# Altium footprint library MEGA.PcbLib: 237 footprints (part 10 of 15)
Each footprint in its own frame and in the unit in brackets; x right, y up, seen from the top. Pads: shape width x height; smd on the part's side, far side on the other; paste and mask are expansions set on the pad; w line width, h text height; cw(c..) or ccw(c..) is an arc to the next point about the centre after c.
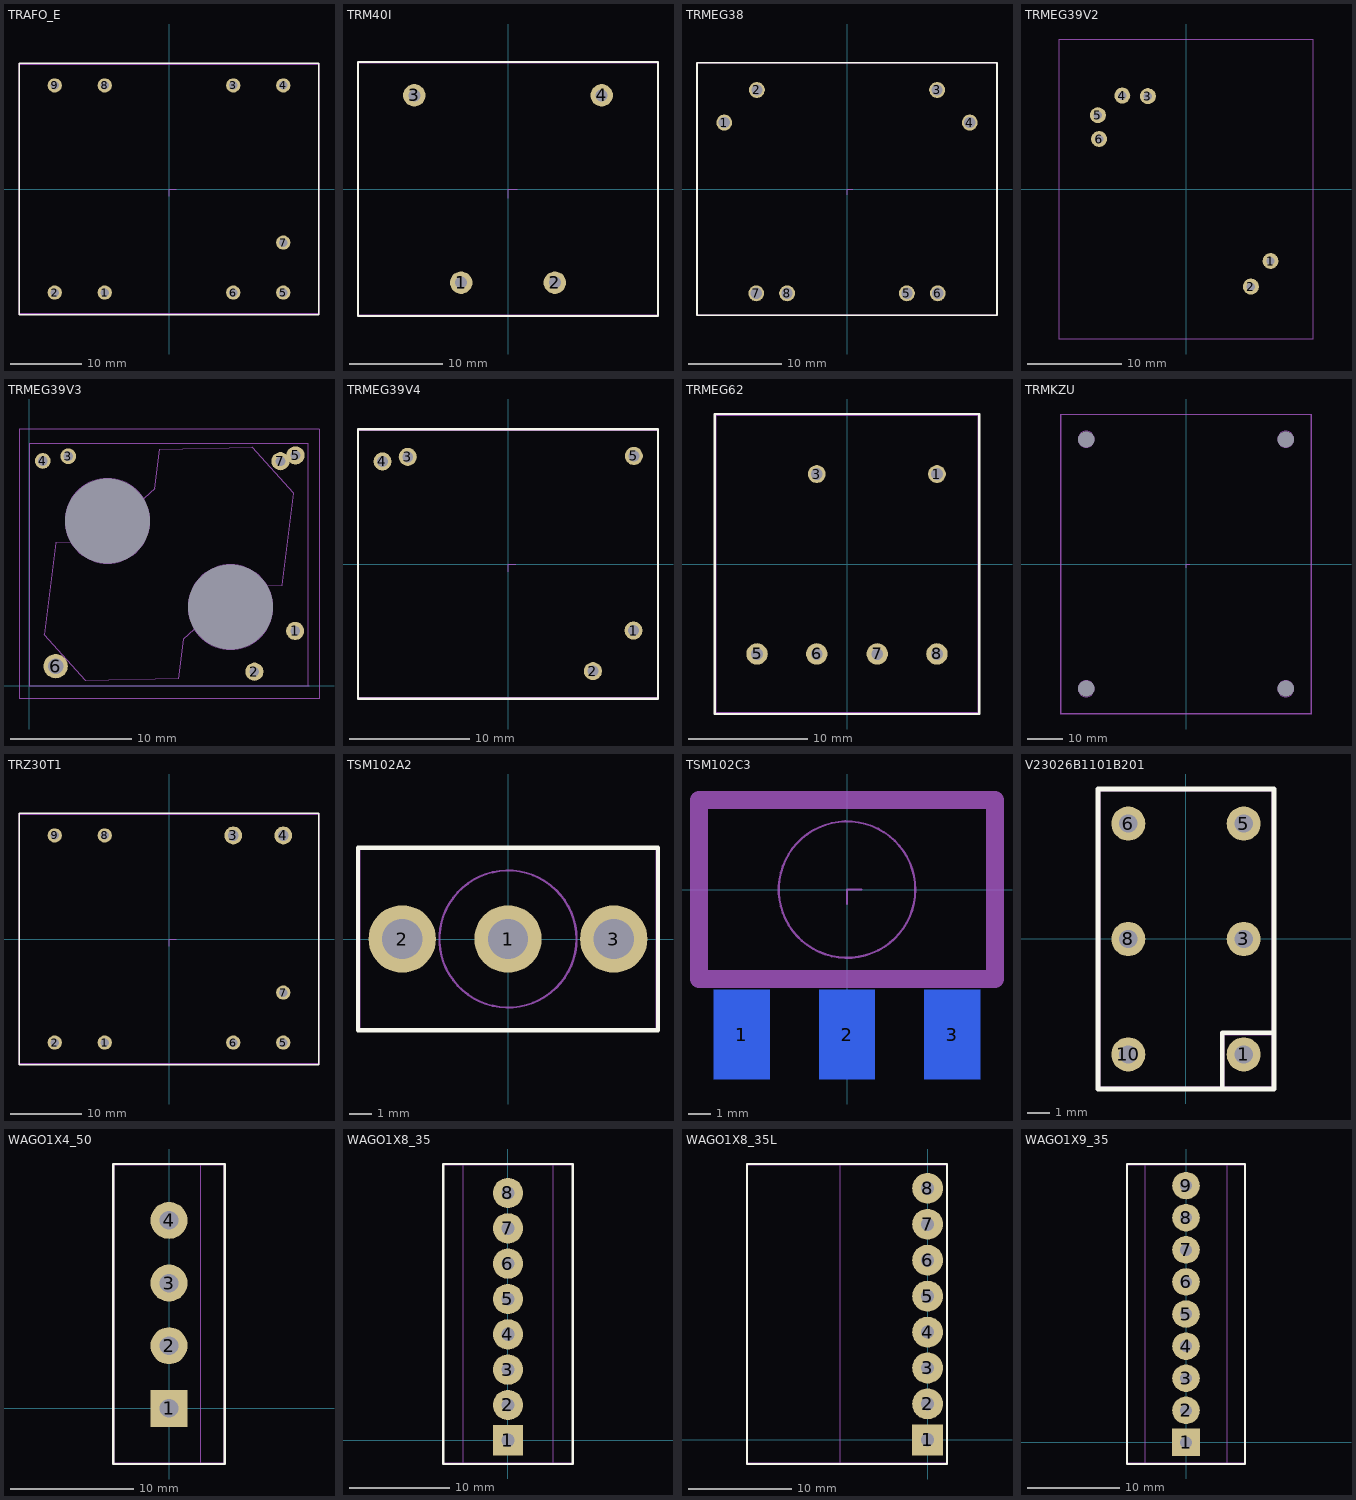
[diagram p9: the footprints below, top view; thin cyan lines are the x and y axes]

## TRAFO_E [mm]
pads (9):
  round 2 hole 1.2 mask+0.05: 1(-9,-14.5) 2(-16,-14.5) 3(9,14.5) 4(16,14.5) 5(16,-14.5) 6(9,-14.5) 7(16,-7.5) 8(-9,14.5) 9(-16,14.5)
Top Overlay:
  lines w0.2: -21,-17.6 21,-17.6 21,17.6 -21,17.6 -21,-17.6
Mechanical 15:
  circle w0.1: c-16,14.5 r0.5
  circle w0.1: c-16,-14.5 r0.5
  circle w0.1: c16,14.5 r0.5
  circle w0.1: c16,-7.5 r0.5
  circle w0.1: c16,-14.5 r0.5
  circle w0.1: c9,-14.5 r0.5
  circle w0.1: c-9,-14.5 r0.5
  circle w0.1: c-9,14.5 r0.5
  circle w0.1: c9,14.5 r0.5
  lines w0.1: -20.9,-17.5 20.9,-17.5 20.9,17.5 -20.9,17.5 -20.9,-17.5
Mechanical 16:
  circle w0.1: c-16,14.5 r0.5
  circle w0.1: c16,14.5 r0.5
  circle w0.1: c-16,-14.5 r0.5
  circle w0.1: c16,-7.5 r0.5
  circle w0.1: c-9,-14.5 r0.5
  circle w0.1: c9,-14.5 r0.5
  circle w0.1: c16,-14.5 r0.5
  circle w0.1: c-9,14.5 r0.5
  circle w0.1: c9,14.5 r0.5
Multi-Layer:
  text "Value" at -1.235,-0.869 h0.75
Mechanical 19:
  lines w0.1: 0,-1 0,0 1,0
Mechanical 20:
  lines w0.1: -21,-17.6 21,-17.6 21,17.6 -21,17.6 -21,-17.6

## TRM40I [mm]
pads (4):
  round 2.4 hole 1.3 mask+0.1: 1(-5.016,-10.033) 2(5.016,-10.033) 3(-10.033,10.033) 4(10.033,10.033)
Top Overlay:
  lines w0.2: -16.066,-13.589 16.066,-13.589 16.066,13.589 -16.066,13.589 -16.066,-13.589
Mechanical 15:
  lines w0.1: -16.002,-13.525 16.002,-13.525 16.002,13.525 -16.002,13.525 -16.002,-13.525
Multi-Layer:
  text "Value" at -1.235,-0.869 h0.75
Mechanical 19:
  lines w0.1: 0,-1 0,0 1,0
Mechanical 20:
  lines w0.1: -16.066,-13.589 16.066,-13.589 16.066,13.589 -16.066,13.589 -16.066,-13.589

## TRMEG38 [mm]
pads (8):
  round 1.7 hole 1.2 mask+0.05: 1(-13.144,7.112) 2(-9.652,10.604) 3(9.652,10.604) 4(13.144,7.112) 5(6.413,-11.176) 6(9.716,-11.176) 7(-9.716,-11.176) 8(-6.413,-11.176)
Top Overlay:
  lines w0.2: -16.066,-13.525 16.066,-13.525 16.066,13.525 -16.066,13.525 -16.066,-13.525
Mechanical 15:
  lines w0.1: -16,-13.5 16,-13.5 16,13.5 -16,13.5 -16,-13.5
Multi-Layer:
  text "Value" at -1.235,-0.869 h0.75
Mechanical 19:
  lines w0.1: 0,-0.635 0,0 0.635,0
Mechanical 20:
  lines w0.1: -16.066,-13.525 16.066,-13.525 16.066,13.525 -16.066,13.525 -16.066,-13.525

## TRMEG39V2 [mm]
pads (6):
  round 1.7 hole 0.9 mask+0.1: 1(9.017,-7.683) 2(6.921,-10.414) 3(-4.064,9.906) 4(-6.794,9.97) 5(-9.398,7.874) 6(-9.271,5.334)
Mechanical 15:
  lines w0.1: -13.525,-16.002 13.525,-16.002 13.525,16.002 -13.525,16.002 -13.525,-16.002

## TRMEG39V3 [mm]
pads (9):
  round 1.5 hole 0.8 mask+0.1: 1(21.971,4.508) 2(18.605,1.143) 5(22,19) 7(20.76,18.52)
  round 1.3 hole 0.8 mask+0.1: 3(3.238,18.923) 4(1.143,18.542)
  round 2 hole 1.3 mask+0.1: 6(2.2,1.6)
  round 0 hole 7 unplated: HL1(6.477,13.589) HL2(16.637,6.477)
Mechanical 15:
  circle w0.1: c6.477,13.589 r3.5
  circle w0.1: c16.637,6.477 r3.5
  circle w0.1: c1.143,18.542 r0.4
  circle w0.1: c3.238,18.923 r0.4
  circle w0.1: c20.76,18.52 r0.4
  circle w0.1: c22,19 r0.4
  circle w0.1: c21.971,4.508 r0.4
  circle w0.1: c18.605,1.143 r0.4
  circle w0.1: c2.2,1.6 r0.65
  lines w0.1: -0.826,-1.079 -0.826,21.145 23.939,21.145 23.939,-1.079 -0.826,-1.079 ; 1.27,4.188 4.669,0.411 12.319,0.551 12.715,3.813 17.623,8.232 20.907,8.283 21.844,15.878 18.445,19.655 10.795,19.515 10.399,16.253 5.491,11.834 2.207,11.783 1.27,4.188
  text "5" at 21.9,17.525 h0.75
  text "6" at 0.818,1.175 h0.75
  text "4" at 0.882,17.025 h0.75
  text "3" at 3.95,18.525 h0.75
  text "2" at 19.3,0.825 h0.75
  text "1" at 21.861,3.025 h0.75
  text "7" at 19.95,18.875 h0.75
Mechanical 19:
  lines w0.1: 23,0 23,20 0,20 0,0 23.114,0

## TRMEG39V4 [mm]
pads (5):
  round 1.5 hole 0.9 mask+0.05: 1(10.414,-5.524) 2(7.048,-8.89) 3(-8.319,8.89) 4(-10.414,8.509) 5(10.443,8.967)
Top Overlay:
  lines w0.2: -12.446,-11.176 12.446,-11.176 12.446,11.176 -12.446,11.176 -12.446,-11.176
Mechanical 15:
  circle w0.1: c-10.414,8.509 r0.4
  circle w0.1: c-8.319,8.89 r0.4
  circle w0.1: c10.443,8.967 r0.4
  circle w0.1: c10.414,-5.524 r0.4
  circle w0.1: c7.048,-8.89 r0.4
  lines w0.1: -12.383,-11.112 12.383,-11.112 12.383,11.112 -12.383,11.112 -12.383,-11.112
Multi-Layer:
  text "Value" at -1.172,-2.139 h0.75
Mechanical 19:
  lines w0.1: 0,-0.635 0,0 0.635,0
Mechanical 20:
  lines w0.1: -12.446,-11.176 12.446,-11.176 12.446,11.176 -12.446,11.176 -12.446,-11.176

## TRMEG62 [mm]
pads (6):
  round 1.5 hole 1 mask+0.05: 1(7.556,7.556) 3(-2.54,7.556)
  round 1.8 hole 1 mask+0.05: 5(-7.556,-7.556) 6(-2.54,-7.556) 7(2.54,-7.556) 8(7.556,-7.556)
Top Overlay:
  lines w0.2: -11.1,-12.6 11.1,-12.6 11.1,12.6 -11.1,12.6 -11.1,-12.6
Mechanical 15:
  lines w0.1: -11,-12.5 11,-12.5 11,12.5 -11,12.5 -11,-12.5
Multi-Layer:
  text "Value" at -1.235,-0.869 h0.75
Mechanical 20:
  lines w0.1: -11.1,-12.6 11.1,-12.6 11.1,12.6 -11.1,12.6 -11.1,-12.6

## TRMKZU [mm]
pads (4):
  round 0 hole 4.5 unplated: 1(-28,-35) 2(28,-35) 3(28,35) 4(-28,35)
Mechanical 15:
  circle w0.1: c-28,-35 r2.25
  circle w0.1: c28,35 r2.25
  circle w0.1: c28,-35 r2.25
  circle w0.1: c-28,35 r2.25
  lines w0.1: -35,-42 35,-42 35,42 -35,42 -35,-42
Mechanical 16:
  circle w0.1: c28,35 r2.25
  circle w0.1: c-28,-35 r2.25
  circle w0.1: c28,-35 r2.25
  circle w0.1: c-28,35 r2.25
Mechanical 19:
  lines w0.1: 0,-1 0,0 1,0
Mechanical 20:
  lines w0.1: -35.1,-42.1 35.1,-42.1 35.1,42.1 -35.1,42.1 -35.1,-42.1

## TRZ30T1 [mm]
pads (9):
  round 2 hole 1.2 mask+0.05: 1(-9,-14.5) 2(-16,-14.5) 5(16,-14.5) 6(9,-14.5) 7(16,-7.5) 8(-9,14.5) 9(-16,14.5)
  round 2.5 hole 1.5 mask+0.05: 3(9,14.5) 4(16,14.5)
Top Overlay:
  lines w0.2: -21,-17.6 21,-17.6 21,17.6 -21,17.6 -21,-17.6
Mechanical 15:
  circle w0.1: c-16,14.5 r0.5
  circle w0.1: c-16,-14.5 r0.5
  circle w0.1: c16,14.5 r0.5
  circle w0.1: c16,-7.5 r0.5
  circle w0.1: c16,-14.5 r0.5
  circle w0.1: c9,-14.5 r0.5
  circle w0.1: c-9,-14.5 r0.5
  circle w0.1: c-9,14.5 r0.5
  circle w0.1: c9,14.5 r0.5
  lines w0.1: -20.9,-17.5 20.9,-17.5 20.9,17.5 -20.9,17.5 -20.9,-17.5
Mechanical 16:
  circle w0.1: c-16,14.5 r0.5
  circle w0.1: c16,14.5 r0.5
  circle w0.1: c-16,-14.5 r0.5
  circle w0.1: c16,-7.5 r0.5
  circle w0.1: c-9,-14.5 r0.5
  circle w0.1: c9,-14.5 r0.5
  circle w0.1: c16,-14.5 r0.5
  circle w0.1: c-9,14.5 r0.5
  circle w0.1: c9,14.5 r0.5
Multi-Layer:
  text "Value" at -1.235,-0.869 h0.75
Mechanical 19:
  lines w0.1: 0,-1 0,0 1,0
Mechanical 20:
  lines w0.1: -21,-17.6 21,-17.6 21,17.6 -21,17.6 -21,-17.6

## TSM102A2 [mm]
pads (3):
  round 3 hole 1.8 mask+0.05: 1(0,0) 2(-4.699,0) 3(4.699,0)
Top Overlay:
  lines w0.2: -6.667,-4.064 6.667,-4.064 6.667,4.064 -6.667,4.064 -6.667,-4.064
Mechanical 15:
  circle w0.1: c0,0 r3.048
  lines w0.1: -6.604,-4 6.604,-4 6.604,4 -6.604,4 -6.604,-4
Multi-Layer:
  text "Value" at -1.235,-0.869 h0.75
Mechanical 19:
  lines w0.1: 0,-0.635 0,0 0.635,0
Mechanical 20:
  lines w0.1: -6.667,-4.064 6.667,-4.064 6.667,4.064 -6.667,4.064 -6.667,-4.064

## TSM102C3 [mm]
pads (3):
  rect 2.5x4 smd far side mask+0.05: 1(-4.699,-6.477) 2(0,-6.477) 3(4.699,-6.477)
Mechanical 15:
  circle w0.1: c0,0 r3.048
  lines w0.1: -6.604,-4 6.604,-4 6.604,4 -6.604,4 -6.604,-4
Mechanical 16:
  lines w0.8: -6.604,-4 -6.604,4 6.604,4 6.604,-4 -6.604,-4
Multi-Layer:
  text "Value" at -1.235,-0.869 h0.75
Mechanical 19:
  lines w0.1: 0,-0.635 0,0 0.635,0
Mechanical 20:
  lines w0.1: -6.667,-4.064 6.667,-4.064 6.667,4.064 -6.667,4.064 -6.667,-4.064

## V23026B1101B201 [mm]
pads (6):
  round 1.5 hole 0.8 mask+0.1: 1(2.54,-5.08) 3(2.54,0) 5(2.54,5.08) 6(-2.54,5.08) 8(-2.54,0) 10(-2.54,-5.08)
Top Overlay:
  lines w0.2: 1.587,-6.604 1.587,-4.127 3.873,-4.127 ; -3.873,-6.604 3.873,-6.604 3.873,6.604 -3.873,6.604 -3.873,-6.604
Mechanical 15:
  lines w0.1: 1.651,-6.54 1.651,-4.191 3.81,-4.191 ; -3.81,-6.54 3.81,-6.54 3.81,6.54 -3.81,6.54 -3.81,-6.54
Mechanical 20:
  lines w0.1: -3.873,-6.604 3.873,-6.604 3.873,6.604 -3.873,6.604 -3.873,-6.604

## WAGO1X4_50 [mm]
pads (4):
  rect 3x3 hole 1.5 mask+0.1: 1(0,0)
  round 3 hole 1.5 mask+0.1: 2(0,5.08) 3(0,10.16) 4(0,15.24)
Top Overlay:
  lines w0.2: -4.508,-4.508 4.508,-4.508 4.508,19.812 -4.508,19.812 -4.508,-4.508
Mechanical 15:
  lines w0.1: 2.54,-4.445 2.54,19.748 ; -4.445,-4.445 -4.445,19.748 4.445,19.748 4.445,-4.445 -4.445,-4.445
Mechanical 20:
  lines w0.1: -4.508,-4.508 -4.508,19.812 4.508,19.812 4.508,-4.508 -4.508,-4.508

## WAGO1X8_35 [mm]
pads (8):
  rect 3x3 hole 1.3 mask+0.1: 1(0,0)
  round 3 hole 1.3 mask+0.1: 2(0,3.5) 3(0,7) 4(0,10.5) 5(0,14) 6(0,17.5) 7(0,21) 8(0,24.5)
Top Overlay:
  lines w0.2: -6.413,-2.349 6.413,-2.349 6.413,27.368 -6.413,27.368 -6.413,-2.349
Mechanical 15:
  lines w0.1: -4.445,-2.286 -4.445,27.305 ; 4.445,-2.286 4.445,27.305 ; -6.35,-2.286 -6.35,27.305 6.35,27.305 6.35,-2.286 -6.35,-2.286
Mechanical 20:
  lines w0.1: -6.413,-2.349 -6.413,27.368 6.413,27.368 6.413,-2.349 -6.413,-2.349

## WAGO1X8_35L [mm]
pads (8):
  rect 3x3 hole 1.3 mask+0.1: 1(0,0)
  round 3 hole 1.3 mask+0.1: 2(0,3.5) 3(0,7) 4(0,10.5) 5(0,14) 6(0,17.5) 7(0,21) 8(0,24.5)
Top Overlay:
  lines w0.2: -17.59,-2.349 1.905,-2.349 1.905,26.86 -17.59,26.86 -17.59,-2.349
Mechanical 15:
  lines w0.1: -8.509,-2.286 -8.509,26.797 ; -17.526,-2.286 -17.526,26.797 1.841,26.797 1.841,-2.286 -17.526,-2.286
Mechanical 20:
  lines w0.1: -17.59,-2.349 -17.59,26.86 1.905,26.86 1.905,-2.349 -17.59,-2.349

## WAGO1X9_35 [mm]
pads (9):
  rect 3x3 hole 1.3 mask+0.1: 1(0,0)
  round 3 hole 1.3 mask+0.1: 2(0,3.5) 3(0,7) 4(0,10.5) 5(0,14) 6(0,17.5) 7(0,21) 8(0,24.5) 9(0,28)
Top Overlay:
  lines w0.2: -6.413,-2.349 6.413,-2.349 6.413,30.353 -6.413,30.353 -6.413,-2.349
Mechanical 15:
  lines w0.1: -4.445,-2.286 -4.445,30.29 ; 4.445,-2.286 4.445,30.29 ; -6.35,-2.286 -6.35,30.29 6.35,30.29 6.35,-2.286 -6.35,-2.286
Mechanical 20:
  lines w0.1: -6.413,-2.349 -6.413,30.353 6.413,30.353 6.413,-2.349 -6.413,-2.349